# EAGLE library part 74138 (library dooba)
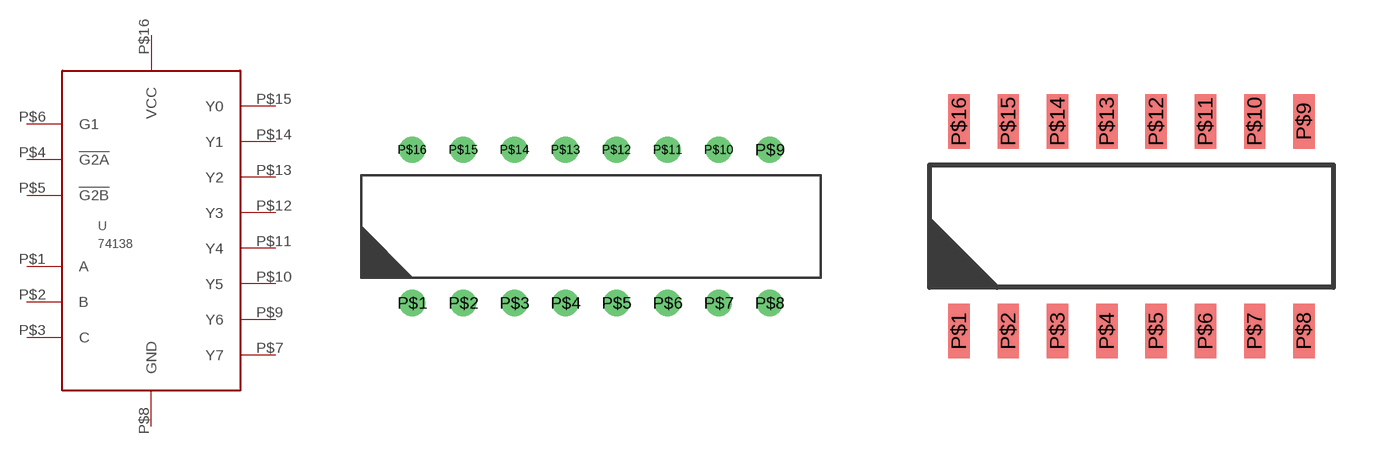
[diagram p55: symbol with the pads of PDIP16; footprints PDIP16, SOIC16]

Designator prefix U

## 74138PDIP  [PDIP16]
P$1  A
P$2  B
P$3  C
P$4  !G2A
P$5  !G2B
P$6  G1
P$7  Y7
P$8  GND
P$9  Y6
P$10  Y5
P$11  Y4
P$12  Y3
P$13  Y2
P$14  Y1
P$15  Y0
P$16  VCC

## 74138SOIC  [SOIC16]
Pads as for PDIP16

## Footprint PDIP16 (pad centres in mm)
drill 0.8: P$1 -8.89,-3.81; P$2 -6.35,-3.81; P$3 -3.81,-3.81; P$4 -1.27,-3.81; P$5 1.27,-3.81; P$6 3.81,-3.81; P$7 6.35,-3.81; P$8 8.89,-3.81; P$9 8.89,3.81; P$10 6.35,3.81; P$11 3.81,3.81; P$12 1.27,3.81; P$13 -1.27,3.81; P$14 -3.81,3.81; P$15 -6.35,3.81; P$16 -8.89,3.81

## Footprint SOIC16 (pad centres in mm)
smd 0.55 x 1.4: P$1 -4.445,-2.7; P$2 -3.175,-2.7; P$3 -1.905,-2.7; P$4 -0.635,-2.7; P$5 0.635,-2.7; P$6 1.905,-2.7; P$7 3.175,-2.7; P$8 4.445,-2.7; P$9 4.445,2.7; P$10 3.175,2.7; P$11 1.905,2.7; P$12 0.635,2.7; P$13 -0.635,2.7; P$14 -1.905,2.7; P$15 -3.175,2.7; P$16 -4.445,2.7